# Altium schematic symbol library FPGA_Xilinx_Virtex6.SchLib: 28 symbols (part 4 of 15)
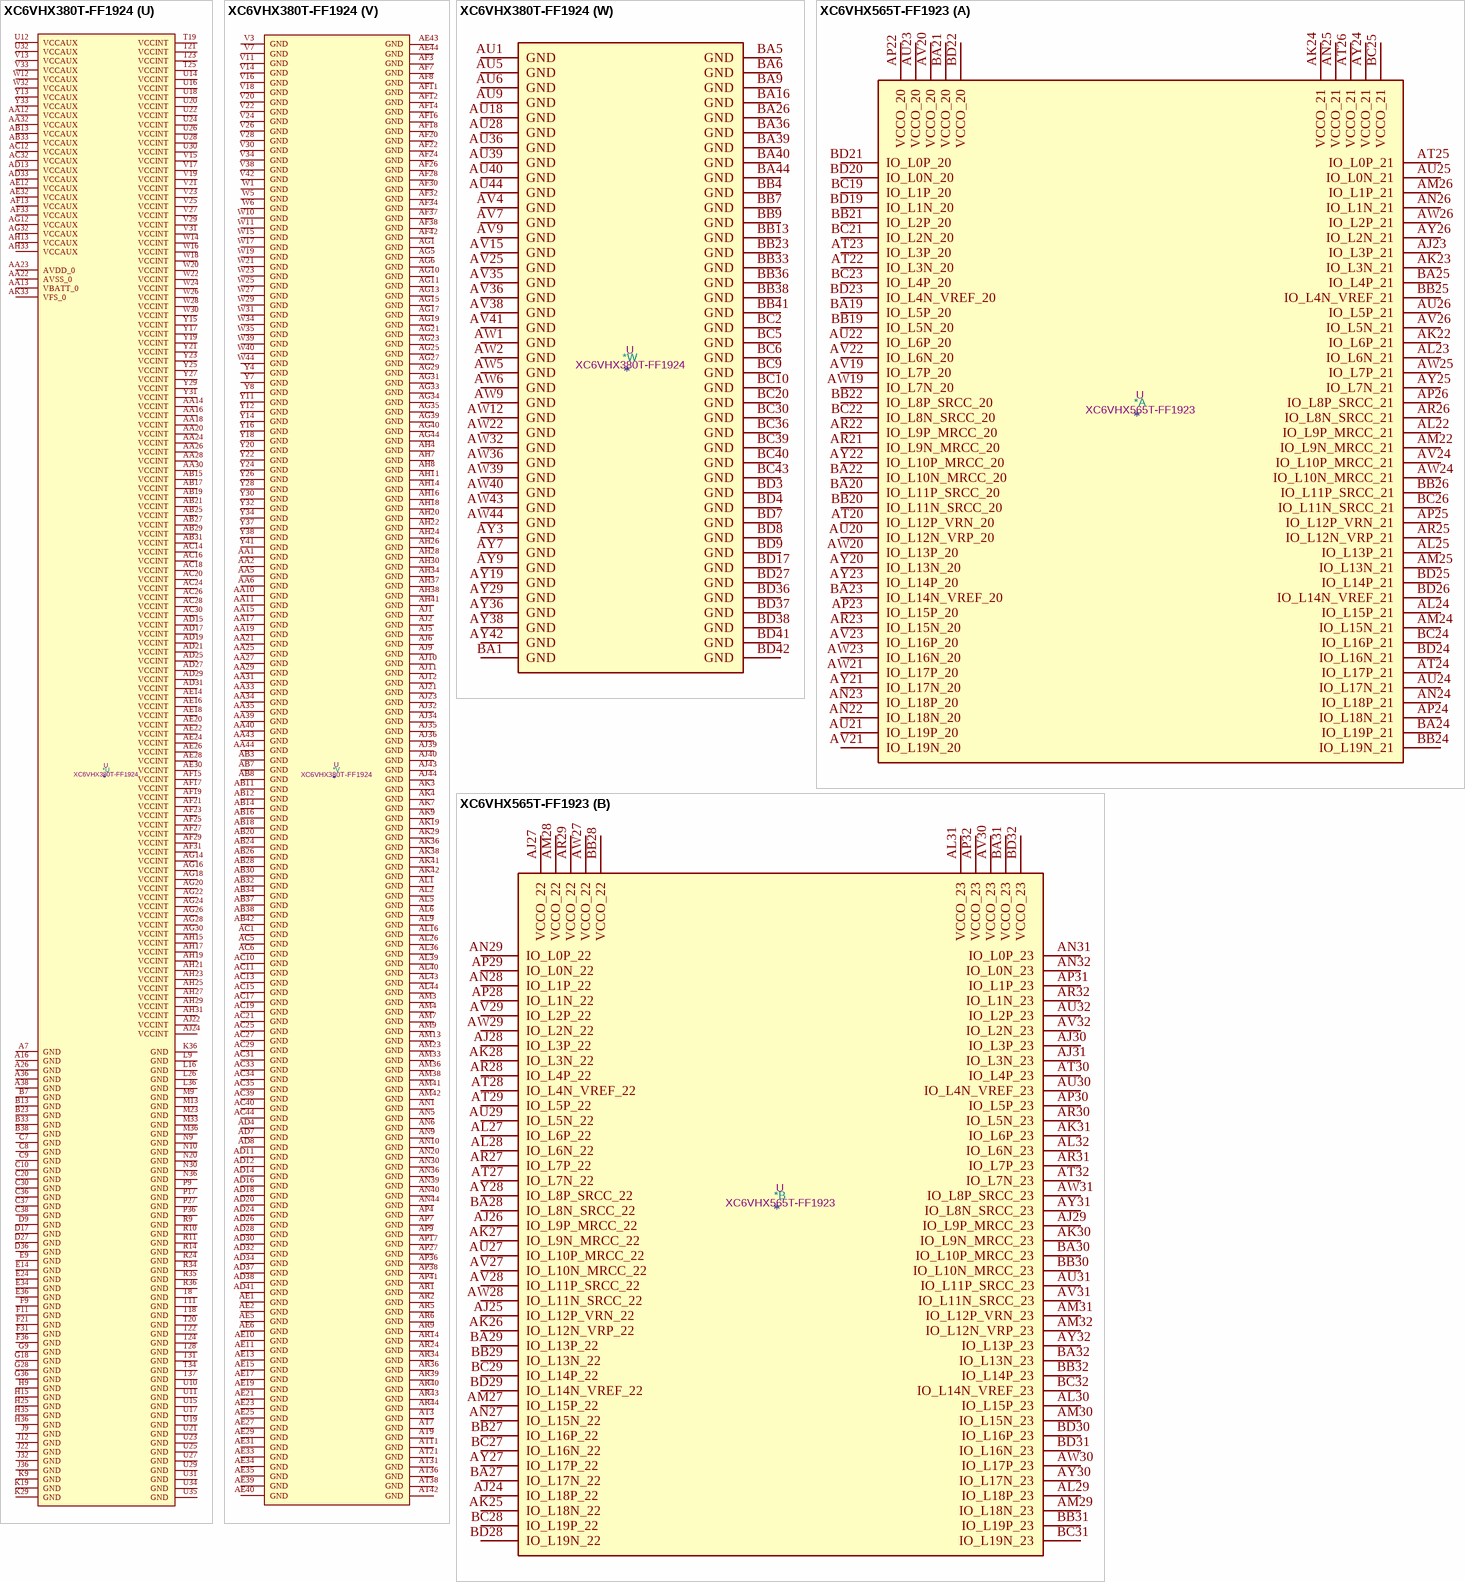
[diagram p104: symbols XC6VHX380T-FF1924 to XC6VHX565T-FF1923]

## XC6VHX380T-FF1924
designator *  value XC6VHX380T-FF1924  Reference: U
Virtex 6 HXT 380 XC6VHX380T-FF1924; ki_keywords: FPGA; Description_: Virtex 6 HXT 380 XC6VHX380T-FF1924
part A pins: AJ25 IO_L12P_VRN_22, AJ26 IO_L9P_MRCC_22, AJ27 VCCO_22, AJ28 IO_L3P_22, AK23 IO_L3P_21, AK24 VCCO_21, AK25 IO_L18P_22, AK26 IO_L12N_VRP_22, AK27 IO_L9N_MRCC_22, AK28 IO_L3N_22, AL23 IO_L3N_21, AL24 IO_L15P_21, AL25 IO_L18N_22, AL27 IO_L6P_22, AL28 IO_L6N_22, AM24 IO_L15N_21, AM25 IO_L15P_22, AM26 IO_L15N_22, AM27 IO_L0P_22, AM28 VCCO_22, AN23 IO_L6P_21, AN24 IO_L18P_21, AN25 VCCO_21, AN26 IO_L10P_MRCC_22, AN27 IO_L1P_22, AN28 IO_L0N_22, AP23 IO_L6N_21, AP24 IO_L18N_21, AP25 IO_L12P_VRN_21, AP26 IO_L10N_MRCC_22, AP28 IO_L1N_22, AR23 IO_L9P_MRCC_21, AR25 IO_L12N_VRP_21, AR26 IO_L5P_22, AR27 IO_L5N_22, AR28 IO_L2P_22, AT23 IO_L9N_MRCC_21, AT24 IO_L14P_21, AT25 IO_L1P_21, AT26 VCCO_22, AT27 IO_L7P_22, AT28 IO_L2N_22, AU23 VCCO_21, AU24 IO_L14N_VREF_21, AU25 IO_L1N_21, AU26 IO_L0P_21, AU27 IO_L7N_22, AV23 IO_L10P_MRCC_21, AV24 IO_L13P_21, AV26 IO_L0N_21, AV27 IO_L11P_SRCC_22, AV28 IO_L4P_22, AW23 IO_L10N_MRCC_21, AW24 IO_L13N_21, AW25 IO_L2P_21, AW26 IO_L5P_21, AW27 VCCO_22, AW28 IO_L11N_SRCC_22, AW29 IO_L4N_VREF_22, AY23 IO_L11P_SRCC_21, AY24 VCCO_21, AY25 IO_L2N_21, AY26 IO_L5N_21, AY27 IO_L13P_22, AY28 IO_L8P_SRCC_22, BA23 IO_L11N_SRCC_21, BA24 IO_L8P_SRCC_21, BA25 IO_L19P_21, BA27 IO_L16P_22, BA28 IO_L13N_22, BA29 IO_L8N_SRCC_22, BB24 IO_L8N_SRCC_21, BB25 IO_L19N_21, BB26 IO_L7P_21, BB27 IO_L16N_22, BB28 VCCO_22, BB29 IO_L17P_22, BC23 IO_L16P_21, BC24 IO_L17P_21, BC25 VCCO_21, BC26 IO_L7N_21, BC27 IO_L14P_22, BC28 IO_L19P_22, BC29 IO_L17N_22, BD23 IO_L16N_21, BD24 IO_L17N_21, BD25 IO_L4P_21, BD26 IO_L4N_VREF_21, BD28 IO_L14N_VREF_22, BD29 IO_L19N_22
part B pins: AJ29 IO_L9P_MRCC_23, AJ30 IO_L9N_MRCC_23, AJ31 IO_L3P_23, AK30 IO_L6P_23, AK31 IO_L3N_23, AK34 VCCO_24, AK35 IO_L3P_D13_24, AL29 IO_L12P_VRN_23, AL30 IO_L6N_23, AL31 VCCO_23, AL32 IO_L18P_24, AL33 IO_L9P_MRCC_24, AL34 IO_L6P_D7_24, AL35 IO_L3N_D12_24, AM29 IO_L18P_23, AM30 IO_L12N_VRP_23, AM31 IO_L15P_23, AM32 IO_L18N_24, AM34 IO_L9N_MRCC_24, AM35 IO_L6N_D6_24, AN29 IO_L18N_23, AN31 IO_L15N_23, AN32 IO_L15P_FWE_B_24, AN33 IO_L15N_RS1_24, AN34 IO_L12P_D3_24, AN35 VCCO_24, AP29 IO_L1P_23, AP30 IO_L1N_23, AP31 IO_L0P_23, AP32 VCCO_24, AP33 IO_L0P_GC_24, AP34 IO_L0N_GC_24, AP35 IO_L12N_D2_FS2_24, AR29 VCCO_23, AR30 IO_L4P_23, AR31 IO_L0N_23, AR32 IO_L8P_SRCC_24, AR33 IO_L1P_GC_24, AR35 IO_L2P_D15_24, AT29 IO_L7P_23, AT30 IO_L4N_VREF_23, AT32 IO_L8N_SRCC_24, AT33 IO_L1N_GC_24, AT34 IO_L5P_D9_24, AT35 IO_L2N_D14_24, AU29 IO_L14P_23, AU30 IO_L7N_23, AU31 IO_L2P_23, AU32 IO_L5P_23, AU33 VCCO_24, AU34 IO_L4P_D11_24, AU35 IO_L5N_D8_24, AV29 IO_L14N_VREF_23, AV30 VCCO_23, AV31 IO_L2N_23, AV32 IO_L5N_23, AV33 IO_L7P_D5_24, AV34 IO_L4N_VREF_D10_24, AW30 IO_L16P_23, AW31 IO_L11P_SRCC_23, AW33 IO_L14P_FCS_B_24, AW34 IO_L7N_D4_24, AW35 IO_L10P_MRCC_24, AY30 IO_L16N_23, AY31 IO_L11N_SRCC_23, AY32 IO_L8P_SRCC_23, AY33 IO_L14N_VREF_FOE_B_MOSI_24, AY34 VCCO_24, AY35 IO_L10N_MRCC_24, BA30 IO_L17P_23, BA31 VCCO_23, BA32 IO_L8N_SRCC_23, BA33 IO_L13P_D1_FS1_24, BA34 IO_L13N_D0_FS0_24, BA35 IO_L11P_SRCC_24, BB30 IO_L17N_23, BB31 IO_L10P_MRCC_23, BB32 IO_L13P_23, BB34 IO_L16P_RS0_24, BB35 IO_L11N_SRCC_24, BC31 IO_L10N_MRCC_23, BC32 IO_L13N_23, BC33 IO_L19P_24, BC34 IO_L16N_CSO_B_24, BC35 VCCO_24, BD30 IO_L19P_23, BD31 IO_L19N_23, BD32 VCCO_23, BD33 IO_L19N_24, BD34 IO_L17P_VRN_24, BD35 IO_L17N_VRP_24
part C pins: A30 IO_L1N_26, A31 VCCO_26, A32 IO_L0N_26, A33 IO_L5N_26, A34 IO_L0P_25, A35 IO_L0N_25, A37 IO_L2N_SM8N_25, B30 IO_L1P_26, B31 IO_L0P_26, B32 IO_L5P_26, B34 IO_L7N_SM12N_25, B35 IO_L1P_25, B36 IO_L1N_25, B37 IO_L2P_SM8P_25, C31 IO_L7N_26, C32 IO_L2P_26, C33 IO_L2N_26, C34 IO_L7P_SM12P_25, C35 VCCO_25, D30 IO_L4N_VREF_26, D31 IO_L7P_26, D32 VCCO_26, D33 IO_L8P_SRCC_25, D34 IO_L8N_SRCC_25, D35 IO_L5N_SM10N_25, E30 IO_L4P_26, E31 IO_L11P_SRCC_26, E32 IO_L11N_SRCC_26, E33 IO_L13N_SM14N_25, E35 IO_L5P_SM10P_25, F30 IO_L13N_26, F32 IO_L8N_SRCC_26, F33 IO_L13P_SM14P_25, F34 IO_L14N_VREF_25, F35 IO_L11N_SRCC_25, G30 IO_L13P_26, G31 IO_L8P_SRCC_26, G32 IO_L17N_26, G33 VCCO_25, G34 IO_L14P_25, G35 IO_L11P_SRCC_25, H30 VCCO_26, H31 IO_L17P_26, H32 IO_L10N_MRCC_26, H33 IO_L19N_GC_25, H34 IO_L17N_25, J30 IO_L19N_26, J31 IO_L10P_MRCC_26, J33 IO_L19P_GC_25, J34 IO_L17P_25, J35 IO_L6N_SM11N_25, K30 IO_L19P_26, K31 IO_L14N_VREF_26, K32 IO_L16N_26, K33 IO_L3N_SM9N_25, K34 VCCO_25, K35 IO_L6P_SM11P_25, L30 IO_L14P_26, L31 VCCO_26, L32 IO_L16P_26, L33 IO_L3P_SM9P_25, L34 IO_L16N_VRP_25, L35 IO_L10N_MRCC_25, M29 IO_L6N_26, M30 IO_L3P_26, M31 IO_L3N_26, M32 IO_L12N_VRP_26, M34 IO_L16P_VRN_25, M35 IO_L10P_MRCC_25, N29 IO_L6P_26, N31 IO_L12P_VRN_26, N32 IO_L12N_SM13N_25, N33 IO_L9P_MRCC_25, N34 IO_L9N_MRCC_25, N35 VCCO_25, P29 IO_L9N_MRCC_26, P30 IO_L15N_26, P31 IO_L12P_SM13P_25, P32 VCCO_25, P33 IO_L15N_SM15N_25, P34 IO_L4P_25, P35 IO_L4N_VREF_25, R28 IO_L9P_MRCC_26, R29 VCCO_26, R30 IO_L15P_26, R31 IO_L18P_GC_25, R32 IO_L18N_GC_25, R33 IO_L15P_SM15P_25, T29 IO_L18P_26, T30 IO_L18N_26
part D pins: A23 IO_L8P_SRCC_28, A24 IO_L8N_SRCC_28, A25 IO_L7N_28, A27 IO_L0N_27, A28 IO_L1P_27, A29 IO_L1N_27, B24 IO_L5N_28, B25 IO_L7P_28, B26 IO_L2N_28, B27 IO_L0P_27, B28 VCCO_27, B29 IO_L5N_27, C23 IO_L5P_28, C24 IO_L4N_VREF_28, C25 VCCO_28, C26 IO_L2P_28, C27 IO_L2P_27, C28 IO_L2N_27, C29 IO_L5P_27, D23 IO_L4P_28, D24 IO_L1N_28, D25 IO_L10N_MRCC_28, D26 IO_L11N_SRCC_28, D28 IO_L8P_SRCC_27, D29 IO_L8N_SRCC_27, E23 IO_L1P_28, E25 IO_L10P_MRCC_28, E26 IO_L11P_SRCC_28, E27 IO_L4N_VREF_27, E28 IO_L7N_27, E29 VCCO_27, F23 IO_L0P_28, F24 IO_L0N_28, F25 IO_L17N_28, F26 VCCO_28, F27 IO_L4P_27, F28 IO_L7P_27, F29 IO_L10N_MRCC_27, G23 VCCO_28, G24 IO_L17P_28, G25 IO_L14P_28, G26 IO_L14N_VREF_28, G27 IO_L11N_SRCC_27, G29 IO_L10P_MRCC_27, H23 IO_L13N_28, H24 IO_L16N_28, H26 IO_L19N_28, H27 IO_L11P_SRCC_27, H28 IO_L17P_27, H29 IO_L17N_27, J23 IO_L13P_28, J24 IO_L16P_28, J25 IO_L12N_VRP_28, J26 IO_L19P_28, J27 VCCO_27, J28 IO_L19P_27, J29 IO_L19N_27, K23 IO_L3N_28, K24 VCCO_28, K25 IO_L12P_VRN_28, K26 IO_L13P_27, K27 IO_L13N_27, K28 IO_L14N_VREF_27, L23 IO_L3P_28, L24 IO_L6P_28, L25 IO_L6N_28, L27 IO_L14P_27, L28 IO_L16P_27, L29 IO_L16N_27, M24 IO_L9P_MRCC_28, M25 IO_L9N_MRCC_28, M26 IO_L3N_27, M27 IO_L6N_27, M28 VCCO_27, N23 IO_L18P_28, N24 IO_L18N_28, N25 VCCO_28, N26 IO_L3P_27, N27 IO_L6P_27, N28 IO_L15N_27, P23 IO_L15P_28, P24 IO_L15N_28, P25 IO_L9N_MRCC_27, P26 IO_L12N_VRP_27, P28 IO_L15P_27, R25 IO_L9P_MRCC_27, R26 IO_L12P_VRN_27, R27 IO_L18N_27, T26 VCCO_27, T27 IO_L18P_27
part E pins: AJ17 VCCO_32, AJ18 IO_L6P_32, AJ19 IO_L15N_32, AJ20 IO_L15P_32, AK17 IO_L3P_32, AK18 IO_L6N_32, AK20 IO_L18P_32, AK21 IO_L3N_31, AK22 IO_L3P_31, AL17 IO_L3N_32, AL18 IO_L9N_MRCC_32, AL19 IO_L9P_MRCC_32, AL20 IO_L18N_32, AL21 VCCO_31, AL22 IO_L15P_31, AM17 IO_L0P_32, AM18 VCCO_32, AM19 IO_L12N_VRP_32, AM20 IO_L12P_VRN_32, AM21 IO_L15N_31, AM22 IO_L18P_31, AN17 IO_L0N_32, AN18 IO_L1P_32, AN19 IO_L10P_MRCC_32, AN21 IO_L6P_31, AN22 IO_L18N_31, AP18 IO_L1N_32, AP19 IO_L10N_MRCC_32, AP20 IO_L6N_31, AP21 IO_L9P_MRCC_31, AP22 VCCO_31, AR17 IO_L2N_32, AR18 IO_L2P_32, AR19 VCCO_32, AR20 IO_L9N_MRCC_31, AR21 IO_L12N_VRP_31, AR22 IO_L12P_VRN_31, AT17 IO_L5P_32, AT18 IO_L7N_32, AT19 IO_L7P_32, AT20 IO_L1P_31, AT22 IO_L13P_31, AU17 IO_L5N_32, AU19 IO_L0P_31, AU20 IO_L1N_31, AU21 IO_L14P_31, AU22 IO_L13N_31, AV17 IO_L4P_32, AV18 IO_L11P_SRCC_32, AV19 IO_L0N_31, AV20 VCCO_31, AV21 IO_L14N_VREF_31, AV22 IO_L10P_MRCC_31, AW16 IO_L4N_VREF_32, AW17 VCCO_32, AW18 IO_L11N_SRCC_32, AW19 IO_L2N_31, AW20 IO_L2P_31, AW21 IO_L10N_MRCC_31, AY16 IO_L13N_32, AY17 IO_L13P_32, AY18 IO_L16P_32, AY20 IO_L4P_31, AY21 IO_L19N_31, AY22 IO_L19P_31, BA17 IO_L17P_32, BA18 IO_L16N_32, BA19 IO_L4N_VREF_31, BA20 IO_L5P_31, BA21 VCCO_31, BA22 IO_L11P_SRCC_31, BB16 IO_L17N_32, BB17 IO_L8P_SRCC_32, BB18 VCCO_32, BB19 IO_L7P_31, BB20 IO_L5N_31, BB21 IO_L11N_SRCC_31, BB22 IO_L16P_31, BC16 IO_L8N_SRCC_32, BC17 IO_L19P_32, BC18 IO_L14P_32, BC19 IO_L7N_31, BC21 IO_L17P_31, BC22 IO_L16N_31, BD16 IO_L19N_32, BD18 IO_L14N_VREF_32, BD19 IO_L8N_SRCC_31, BD20 IO_L8P_SRCC_31, BD21 IO_L17N_31, BD22 VCCO_31
part F pins: AJ14 IO_L3N_33, AJ15 IO_L3P_33, AJ16 IO_L6P_33, AK10 IO_L3P_A13_D29_34, AK13 IO_L15P_A23_34, AK14 VCCO_33, AK15 IO_L9P_MRCC_33, AK16 IO_L6N_33, AL10 IO_L3N_A12_D28_34, AL11 VCCO_34, AL12 IO_L9P_MRCC_34, AL13 IO_L15N_A22_34, AL14 IO_L9N_MRCC_33, AL15 IO_L12P_VRN_33, AM10 IO_L6N_A06_D22_34, AM11 IO_L6P_A07_D23_34, AM12 IO_L9N_MRCC_34, AM14 IO_L15P_33, AM15 IO_L12N_VRP_33, AM16 IO_L18P_33, AN11 IO_L12P_A03_D19_34, AN12 IO_L18N_A16_34, AN13 IO_L18P_A17_34, AN14 IO_L15N_33, AN15 VCCO_33, AN16 IO_L18N_33, AP10 IO_L12N_A02_D18_34, AP11 IO_L0P_GC_34, AP12 VCCO_34, AP13 IO_L8P_SRCC_34, AP14 IO_L1N_33, AP15 IO_L1P_33, AP16 IO_L4P_33, AR10 IO_L2P_A15_D31_34, AR11 IO_L0N_GC_34, AR12 IO_L1P_GC_34, AR13 IO_L8N_SRCC_34, AR15 IO_L0P_33, AR16 IO_L4N_VREF_33, AT10 IO_L2N_A14_D30_34, AT12 IO_L1N_GC_34, AT13 IO_L13P_A01_D17_34, AT14 IO_L0N_33, AT15 IO_L7P_33, AT16 VCCO_33, AU10 IO_L4N_VREF_A10_D26_34, AU11 IO_L4P_A11_D27_34, AU12 IO_L13N_A00_D16_34, AU13 VCCO_33, AU14 IO_L5P_33, AU15 IO_L7N_33, AU16 IO_L14P_33, AV10 VCCO_34, AV11 IO_L5N_A08_D24_34, AV12 IO_L5P_A09_D25_34, AV13 IO_L5N_33, AV14 IO_L2P_33, AV16 IO_L14N_VREF_33, AW10 IO_L10P_MRCC_34, AW11 IO_L7P_A05_D21_34, AW13 IO_L11P_SRCC_33, AW14 IO_L2N_33, AW15 IO_L17P_33, AY10 IO_L10N_MRCC_34, AY11 IO_L7N_A04_D20_34, AY12 IO_L14P_A25_34, AY13 IO_L11N_SRCC_33, AY14 VCCO_33, AY15 IO_L17N_33, BA10 IO_L11P_SRCC_34, BA11 VCCO_34, BA12 IO_L14N_VREF_A24_34, BA13 IO_L8N_SRCC_33, BA14 IO_L8P_SRCC_33, BA15 IO_L16P_33, BB10 IO_L11N_SRCC_34, BB11 IO_L16P_A21_34, BB12 IO_L19P_VRN_34, BB14 IO_L13P_33, BB15 IO_L16N_33, BC11 IO_L16N_A20_34, BC12 IO_L19N_VRP_34, BC13 IO_L13N_33, BC14 IO_L10P_MRCC_33, BC15 VCCO_33, BD10 IO_L17N_A18_34, BD11 IO_L17P_A19_34, BD12 VCCO_34, BD13 IO_L10N_MRCC_33, BD14 IO_L19N_33, BD15 IO_L19P_33
part G pins: A8 IO_L4N_VREF_35, A9 IO_L7N_SM4N_35, A10 IO_L2N_SM0N_35, A11 VCCO_35, A12 IO_L1N_35, A13 IO_L1P_35, A14 IO_L5N_36, A15 IO_L1N_36, A17 IO_L0N_36, B8 VCCO_35, B9 IO_L4P_35, B10 IO_L7P_SM4P_35, B11 IO_L2P_SM0P_35, B12 IO_L5N_SM2N_35, B14 IO_L5P_36, B15 IO_L1P_36, B16 IO_L2N_36, B17 IO_L0P_36, C11 IO_L0N_35, C12 IO_L0P_35, C13 IO_L5P_SM2P_35, C14 IO_L4N_VREF_36, C15 VCCO_36, C16 IO_L2P_36, D10 IO_L14N_VREF_35, D11 IO_L8N_SRCC_35, D12 VCCO_35, D13 IO_L17N_36, D14 IO_L4P_36, D15 IO_L11N_SRCC_36, D16 IO_L7N_36, E10 IO_L13N_SM6N_35, E11 IO_L14P_35, E12 IO_L8P_SRCC_35, E13 IO_L17P_36, E15 IO_L11P_SRCC_36, E16 IO_L7P_36, F10 IO_L13P_SM6P_35, F12 IO_L10N_MRCC_35, F13 IO_L6N_36, F14 IO_L6P_36, F15 IO_L3N_36, F16 VCCO_36, G10 IO_L6N_SM3N_35, G11 IO_L17N_35, G12 IO_L10P_MRCC_35, G13 VCCO_36, G14 IO_L13N_36, G15 IO_L3P_36, H10 VCCO_35, H11 IO_L6P_SM3P_35, H12 IO_L17P_35, H13 IO_L8N_SRCC_36, H14 IO_L13P_36, J10 IO_L11N_SRCC_35, J11 IO_L9N_MRCC_35, J13 IO_L14N_VREF_36, J14 IO_L8P_SRCC_36, J15 IO_L19N_36, K10 IO_L11P_SRCC_35, K11 IO_L9P_MRCC_35, K12 IO_L16N_VRP_35, K13 IO_L14P_36, K14 VCCO_36, K15 IO_L19P_36, L10 IO_L15N_SM7N_35, L11 VCCO_35, L12 IO_L16P_VRN_35, L13 IO_L18N_36, L14 IO_L18P_36, L15 IO_L16N_36, M10 IO_L18N_GC_35, M11 IO_L15P_SM7P_35, M12 IO_L19N_GC_35, M14 IO_L12N_VRP_36, M15 IO_L16P_36, N11 IO_L18P_GC_35, N12 IO_L19P_GC_35, N13 IO_L10N_MRCC_36, N14 IO_L12P_VRN_36, N15 VCCO_36, P10 IO_L12N_SM5N_35, P11 IO_L12P_SM5P_35, P12 VCCO_35, P13 IO_L10P_MRCC_36, P14 IO_L9N_MRCC_36, P15 IO_L9P_MRCC_36, R12 IO_L3N_SM1N_35, R13 IO_L3P_SM1P_35, R15 IO_L15N_36, T15 IO_L15P_36
part H pins: A18 IO_L4N_VREF_38, A19 IO_L5N_38, A20 IO_L8N_SRCC_38, A21 VCCO_38, A22 IO_L7N_38, B18 VCCO_38, B19 IO_L4P_38, B20 IO_L5P_38, B21 IO_L8P_SRCC_38, B22 IO_L7P_38, C17 IO_L5N_37, C18 IO_L5P_37, C19 IO_L1N_37, C21 IO_L1N_38, C22 IO_L1P_38, D18 IO_L2N_37, D19 IO_L1P_37, D20 IO_L11N_SRCC_38, D21 IO_L2N_38, D22 VCCO_38, E17 IO_L4N_VREF_37, E18 IO_L2P_37, E19 VCCO_37, E20 IO_L16N_38, E21 IO_L11P_SRCC_38, E22 IO_L2P_38, F17 IO_L4P_37, F18 IO_L7N_37, F19 IO_L7P_37, F20 IO_L16P_38, F22 IO_L13N_38, G16 IO_L13N_37, G17 IO_L8N_SRCC_37, G19 IO_L0N_37, G20 IO_L17N_38, G21 IO_L10N_MRCC_38, G22 IO_L13P_38, H16 IO_L14N_VREF_37, H17 IO_L13P_37, H18 IO_L8P_SRCC_37, H19 IO_L0P_37, H20 VCCO_38, H21 IO_L17P_38, H22 IO_L10P_MRCC_38, J16 IO_L14P_37, J17 VCCO_37, J18 IO_L11N_SRCC_37, J19 IO_L11P_SRCC_37, J20 IO_L19N_38, J21 IO_L0N_38, K16 IO_L17N_37, K17 IO_L17P_37, K18 IO_L10N_MRCC_37, K20 IO_L14N_VREF_38, K21 IO_L19P_38, K22 IO_L0P_38, L17 IO_L18N_37, L18 IO_L10P_MRCC_37, L19 IO_L3N_37, L20 IO_L14P_38, L21 VCCO_38, L22 IO_L3N_38, M16 IO_L16N_37, M17 IO_L18P_37, M18 VCCO_37, M19 IO_L3P_37, M20 IO_L6N_38, M21 IO_L6P_38, M22 IO_L3P_38, N16 IO_L16P_37, N17 IO_L12N_VRP_37, N18 IO_L12P_VRN_37, N19 IO_L6N_37, N21 IO_L9N_MRCC_38, N22 IO_L9P_MRCC_38, P16 IO_L19N_37, P18 IO_L9N_MRCC_37, P19 IO_L6P_37, P20 IO_L12N_VRP_38, P21 IO_L18N_38, P22 VCCO_38, R16 IO_L19P_37, R17 IO_L15N_37, R18 IO_L9P_MRCC_37, R19 VCCO_37, R20 IO_L12P_VRN_38, R21 IO_L18P_38, R22 IO_L15N_38, R23 IO_L15P_38, T16 VCCO_37, T17 IO_L15P_37
part I pins: AP39 MGTRXN3_101, AP40 MGTRXP3_101, AP43 MGTTXN3_101, AP44 MGTTXP3_101, AR37 MGTREFCLK1P_101, AR38 MGTREFCLK1N_101, AR41 MGTTXN2_101, AR42 MGTTXP2_101, AT39 MGTRXN2_101, AT40 MGTRXP2_101, AT43 MGTTXN1_101, AT44 MGTTXP1_101, AU37 MGTREFCLK0P_101, AU38 MGTREFCLK0N_101, AU41 MGTTXN0_101, AU42 MGTTXP0_101, AV39 MGTRXN1_101, AV40 MGTRXP1_101, AV43 MGTTXN3_100, AV44 MGTTXP3_100, AW37 MGTREFCLK1P_100, AW38 MGTREFCLK1N_100, AW41 MGTTXN2_100, AW42 MGTTXP2_100, AY39 MGTRXN0_101, AY40 MGTRXP0_101, AY43 MGTTXN1_100, AY44 MGTTXP1_100, BA37 MGTREFCLK0P_100, BA38 MGTREFCLK0N_100, BA41 MGTRXN3_100, BA42 MGTRXP3_100, BB39 MGTRXN2_100, BB40 MGTRXP2_100, BB43 MGTTXN0_100, BB44 MGTTXP0_100, BC41 MGTRXN1_100, BC42 MGTRXP1_100, BD39 MGTRXN0_100, BD40 MGTRXP0_100
part J pins: AD35 MGTREFCLK1P_103, AD36 MGTREFCLK1N_103, AE37 MGTRXN3_103, AE38 MGTRXP3_103, AF35 MGTREFCLK0P_103, AF36 MGTREFCLK0N_103, AF39 MGTRXN2_103, AF40 MGTRXP2_103, AF43 MGTTXN3_103, AF44 MGTTXP3_103, AG37 MGTRXN1_103, AG38 MGTRXP1_103, AG41 MGTTXN2_103, AG42 MGTTXP2_103, AH35 MGTREFCLK1P_102, AH36 MGTREFCLK1N_102, AH39 MGTRXN0_103, AH40 MGTRXP0_103, AH43 MGTTXN1_103, AH44 MGTTXP1_103, AJ37 MGTRXN2_102, AJ38 MGTRXP2_102, AJ41 MGTTXN0_103, AJ42 MGTTXP0_103, AK39 MGTRXN3_102, AK40 MGTRXP3_102, AK43 MGTTXN3_102, AK44 MGTTXP3_102, AL37 MGTRXN0_102, AL38 MGTRXP0_102, AL41 MGTTXN2_102, AL42 MGTTXP2_102, AM39 MGTRXN1_102, AM40 MGTRXP1_102, AM43 MGTTXN1_102, AM44 MGTTXP1_102, AN37 MGTREFCLK0P_102, AN38 MGTREFCLK0N_102, AN41 MGTTXN0_102, AN42 MGTTXP0_102
part K pins: AA37 MGTRXN3_104, AA38 MGTRXP3_104, AA41 MGTTXN0_105, AA42 MGTTXP0_105, AB35 MGTREFCLK0P_104, AB36 MGTREFCLK0N_104, AB39 MGTRXN2_104, AB40 MGTRXP2_104, AB43 MGTTXN3_104, AB44 MGTTXP3_104, AC37 MGTRXN1_104, AC38 MGTRXP1_104, AC41 MGTTXN2_104, AC42 MGTTXP2_104, AD39 MGTRXN0_104, AD40 MGTRXP0_104, AD43 MGTTXN1_104, AD44 MGTTXP1_104, AE41 MGTTXN0_104, AE42 MGTTXP0_104, T35 MGTREFCLK1P_105, T36 MGTREFCLK1N_105, U37 MGTRXN3_105, U38 MGTRXP3_105, V35 MGTREFCLK0P_105, V36 MGTREFCLK0N_105, V39 MGTRXN2_105, V40 MGTRXP2_105, V43 MGTTXN3_105, V44 MGTTXP3_105, W37 MGTRXN1_105, W38 MGTRXP1_105, W41 MGTTXN2_105, W42 MGTTXP2_105, Y35 MGTREFCLK1P_104, Y36 MGTREFCLK1N_104, Y39 MGTRXN0_105, Y40 MGTRXP0_105, Y43 MGTTXN1_105, Y44 MGTTXP1_105
part L pins: E37 MGTRBIAS_107, G41 MGTTXP2_107, G42 MGTTXN2_107, H39 MGTRXP2_107, H40 MGTRXN2_107, H43 MGTTXP3_107, H44 MGTTXN3_107, J37 MGTRXP3_107, J38 MGTRXN3_107, J41 MGTREFCLKP_107, J42 MGTREFCLKN_107, K39 MGTRXP0_107, K40 MGTRXN0_107, K43 MGTTXP1_107, K44 MGTTXN1_107, L37 MGTRXP1_107, L38 MGTRXN1_107, L41 MGTTXP0_107, L42 MGTTXN0_107, M39 MGTRXP3_106, M40 MGTRXN3_106, M43 MGTTXP2_106, M44 MGTTXN2_106, N37 MGTRXP2_106, N38 MGTRXN2_106, N41 MGTTXP3_106, N42 MGTTXN3_106, P43 MGTTXP1_106, P44 MGTTXN1_106, R38 MGTRBIAS_106, R41 MGTREFCLKP_106, R42 MGTREFCLKN_106, T39 MGTRXP1_106, T40 MGTRXN1_106, T43 MGTTXP0_106, T44 MGTTXN0_106, U41 MGTRXP0_106, U42 MGTRXN0_106
part M pins: A41 MGTTXP2_108, A42 MGTTXN2_108, AV1 MGTTXP3_110, AV2 MGTTXN3_110, AW3 MGTTXP2_110, AW4 MGTTXN2_110, AW7 MGTREFCLK1N_110, AW8 MGTREFCLK1P_110, AY1 MGTTXP1_110, AY2 MGTTXN1_110, B39 MGTRXP2_108, B40 MGTRXN2_108, BA3 MGTRXP3_110, BA4 MGTRXN3_110, BA7 MGTREFCLK0N_110, BA8 MGTREFCLK0P_110, BB1 MGTTXP0_110, BB2 MGTTXN0_110, BB5 MGTRXP2_110, BB6 MGTRXN2_110, BC3 MGTRXP1_110, BC4 MGTRXN1_110, BD5 MGTRXP0_110, BD6 MGTRXN0_110, C41 MGTTXP3_108, C42 MGTTXN3_108, D37 MGTRBIAS_108, D39 MGTRXP3_108, D40 MGTRXN3_108, D43 MGTTXP1_108, D44 MGTTXN1_108, E41 MGTREFCLKP_108, E42 MGTREFCLKN_108, F39 MGTRXP1_108, F40 MGTRXN1_108, F43 MGTTXP0_108, F44 MGTTXN0_108, G37 MGTRXP0_108, G38 MGTRXN0_108
part N pins: AH9 MGTREFCLK1N_112, AH10 MGTREFCLK1P_112, AJ7 MGTRXP2_112, AJ8 MGTRXN2_112, AK1 MGTTXP3_112, AK2 MGTTXN3_112, AK5 MGTRXP3_112, AK6 MGTRXN3_112, AL3 MGTTXP2_112, AL4 MGTTXN2_112, AL7 MGTRXP0_112, AL8 MGTRXN0_112, AM1 MGTTXP1_112, AM2 MGTTXN1_112, AM5 MGTRXP1_112, AM6 MGTRXN1_112, AN3 MGTTXP0_112, AN4 MGTTXN0_112, AN7 MGTREFCLK0N_112, AN8 MGTREFCLK0P_112, AP1 MGTTXP3_111, AP2 MGTTXN3_111, AP5 MGTRXP3_111, AP6 MGTRXN3_111, AR3 MGTTXP2_111, AR4 MGTTXN2_111, AR7 MGTREFCLK1N_111, AR8 MGTREFCLK1P_111, AT1 MGTTXP1_111, AT2 MGTTXN1_111, AT5 MGTRXP2_111, AT6 MGTRXN2_111, AU3 MGTTXP0_111, AU4 MGTTXN0_111, AU7 MGTREFCLK0N_111, AU8 MGTREFCLK0P_111, AV5 MGTRXP1_111, AV6 MGTRXN1_111, AY5 MGTRXP0_111, AY6 MGTRXN0_111
part O pins: AA7 MGTRXP3_114, AA8 MGTRXN3_114, AB1 MGTTXP3_114, AB2 MGTTXN3_114, AB5 MGTRXP2_114, AB6 MGTRXN2_114, AB9 MGTREFCLK0N_114, AB10 MGTREFCLK0P_114, AC3 MGTTXP2_114, AC4 MGTTXN2_114, AC7 MGTRXP1_114, AC8 MGTRXN1_114, AD1 MGTTXP1_114, AD2 MGTTXN1_114, AD5 MGTRXP0_114, AD6 MGTRXN0_114, AD9 MGTREFCLK1N_113, AD10 MGTREFCLK1P_113, AE3 MGTTXP0_114, AE4 MGTTXN0_114, AE7 MGTRXP3_113, AE8 MGTRXN3_113, AF1 MGTTXP3_113, AF2 MGTTXN3_113, AF5 MGTRXP2_113, AF6 MGTRXN2_113, AF9 MGTREFCLK0N_113, AF10 MGTREFCLK0P_113, AG3 MGTTXP2_113, AG4 MGTTXN2_113, AG7 MGTRXP1_113, AG8 MGTRXN1_113, AH1 MGTTXP1_113, AH2 MGTTXN1_113, AH5 MGTRXP0_113, AH6 MGTRXN0_113, AJ3 MGTTXP0_113, AJ4 MGTTXN0_113, Y9 MGTREFCLK1N_114, Y10 MGTREFCLK1P_114
part P pins: AA3 MGTTXP0_115, AA4 MGTTXN0_115, M1 MGTTXN2_116, M2 MGTTXP2_116, M5 MGTRXN3_116, M6 MGTRXP3_116, N3 MGTTXN3_116, N4 MGTTXP3_116, N7 MGTRXN2_116, N8 MGTRXP2_116, P1 MGTTXN1_116, P2 MGTTXP1_116, R3 MGTREFCLKN_116, R4 MGTREFCLKP_116, R7 MGTRBIAS_116, T1 MGTTXN0_116, T2 MGTTXP0_116, T5 MGTRXN1_116, T6 MGTRXP1_116, T9 MGTREFCLK1N_115, T10 MGTREFCLK1P_115, U3 MGTRXN0_116, U4 MGTRXP0_116, U7 MGTRXP3_115, U8 MGTRXN3_115, V1 MGTTXP3_115, V2 MGTTXN3_115, V5 MGTRXP2_115, V6 MGTRXN2_115, V9 MGTREFCLK0N_115, V10 MGTREFCLK0P_115, W3 MGTTXP2_115, W4 MGTTXN2_115, W7 MGTRXP1_115, W8 MGTRXN1_115, Y1 MGTTXP1_115, Y2 MGTTXN1_115, Y5 MGTRXP0_115, Y6 MGTRXN0_115
part Q pins: A3 MGTTXN2_118, A4 MGTTXP2_118, B5 MGTRXN2_118, B6 MGTRXP2_118, C3 MGTTXN3_118, C4 MGTTXP3_118, D1 MGTTXN1_118, D2 MGTTXP1_118, D5 MGTRXN3_118, D6 MGTRXP3_118, D8 MGTRBIAS_118, E3 MGTREFCLKN_118, E4 MGTREFCLKP_118, E8 MGTRBIAS_117, F1 MGTTXN0_118, F2 MGTTXP0_118, F5 MGTRXN1_118, F6 MGTRXP1_118, G3 MGTTXN2_117, G4 MGTTXP2_117, G7 MGTRXN0_118, G8 MGTRXP0_118, H1 MGTTXN3_117, H2 MGTTXP3_117, H5 MGTRXN2_117, H6 MGTRXP2_117, J3 MGTREFCLKN_117, J4 MGTREFCLKP_117, J7 MGTRXN3_117, J8 MGTRXP3_117, K1 MGTTXN1_117, K2 MGTTXP1_117, K5 MGTRXN0_117, K6 MGTRXP0_117, L3 MGTTXN0_117, L4 MGTTXP0_117, L7 MGTRXN1_117, L8 MGTRXP1_117
part R pins: AA9 MGTAVCC_RN, AA36 MGTAVCC_LN, AB4 MGTAVTT_RN, AB41 MGTAVTT_LN, AC2 MGTAVTT_RN, AC9 MGTAVCC_RN, AC36 MGTAVCC_LN, AC43 MGTAVTT_LN, AD3 MGTAVTT_RN, AD42 MGTAVTT_LN, AE9 MGTAVCC_RN, AE36 MGTAVCC_LN, AF4 MGTAVTT_RN, AF41 MGTAVTT_LN, AG2 MGTAVTT_RN, AG9 MGTAVCC_RN, AG36 MGTAVCC_LN, AG43 MGTAVTT_LN, AH3 MGTAVTT_RN, AH42 MGTAVTT_LN, AK8 MGTAVCC_RS, AK37 MGTAVCC_LS, AM8 MGTAVCC_RS, AM37 MGTAVCC_LS, AN2 MGTAVTT_RS, AN43 MGTAVTT_LS, AP3 MGTAVTT_RS, AP8 MGTAVCC_RS, AP37 MGTAVCC_LS, AP42 MGTAVTT_LS, AT4 MGTAVTT_RS, AT8 MGTAVCC_RS, AT37 MGTAVCC_LS, AT41 MGTAVTT_LS, AU2 MGTAVTT_RS, AU43 MGTAVTT_LS, AV3 MGTAVTT_RS, AV8 MGTAVCC_RS, AV37 MGTAVCC_LS, AV42 MGTAVTT_LS, AY4 MGTAVTT_RS, AY8 MGTAVCC_RS, AY37 MGTAVCC_LS, AY41 MGTAVTT_LS, BA2 MGTAVTT_RS, BA43 MGTAVTT_LS, BB3 MGTAVTT_RS, BB8 MGTAVCC_RS, BB37 MGTAVCC_LS, BB42 MGTAVTT_LS, BC7 MGTRREF_115, BC8 MGTAVTTRCAL_115, BC37 MGTAVTTRCAL_105, BC38 MGTRREF_105, U9 MGTAVCC_RN, U36 MGTAVCC_LN, V8 MGTAVCC_RN, V37 MGTAVCC_LN, W2 MGTAVTT_RN, W9 MGTAVCC_RN, W36 MGTAVCC_LN, W43 MGTAVTT_LN, Y3 MGTAVTT_RN, Y42 MGTAVTT_LN
part S pins: A5 MGTHAGND_R, A6 MGTHAVCCRX_R, A39 MGTHAVCCRX_L, A40 MGTHAGND_L, B2 MGTHAGND_R, B3 MGTHAGND_R, B4 MGTHAVCC_R, B41 MGTHAVCC_L, B42 MGTHAGND_L, B43 MGTHAGND_L, C1 MGTHAGND_R, C2 MGTHAGND_R, C5 MGTHAGND_R, C6 MGTHAVCCRX_R, C39 MGTHAVCCRX_L, C40 MGTHAGND_L, C43 MGTHAGND_L, C44 MGTHAGND_L, D3 MGTHAGND_R, D4 MGTHAVCC_R, D7 MGTHAGND_R, D38 MGTHAGND_L, D41 MGTHAVCC_L, D42 MGTHAGND_L, E1 MGTHAGND_R, E2 MGTHAVTT_R, E5 MGTHAGND_R, E6 MGTHAVCC_R, E7 MGTHAGND_R, E38 MGTHAGND_L, E39 MGTHAVCC_L, E40 MGTHAGND_L, E43 MGTHAVTT_L, E44 MGTHAGND_L, F3 MGTHAGND_R, F4 MGTHAVCC_R, F7 MGTHAGND_R, F8 MGTHAVCCRX_R, F37 MGTHAVCCRX_L, F38 MGTHAGND_L, F41 MGTHAVCC_L, F42 MGTHAGND_L, G1 MGTHAGND_R, G2 MGTHAGND_R, G5 MGTHAGND_R, G6 MGTHAVCCRX_R, G39 MGTHAVCCRX_L, G40 MGTHAGND_L, G43 MGTHAGND_L, G44 MGTHAGND_L, H3 MGTHAGND_R, H4 MGTHAVCC_R, H7 MGTHAGND_R, H8 MGTHAVCCPLL_R, H37 MGTHAVCCPLL_L, H38 MGTHAGND_L, H41 MGTHAVCC_L, H42 MGTHAGND_L, J1 MGTHAGND_R, J2 MGTHAVTT_R, J5 MGTHAGND_R, J6 MGTHAVCCRX_R, J39 MGTHAVCCRX_L, J40 MGTHAGND_L, J43 MGTHAVTT_L, J44 MGTHAGND_L, K3 MGTHAGND_R, K4 MGTHAVCC_R, K7 MGTHAGND_R, K8 MGTHAVCCPLL_R, K37 MGTHAVCCPLL_L, K38 MGTHAGND_L, K41 MGTHAVCC_L, K42 MGTHAGND_L, L1 MGTHAGND_R, L2 MGTHAVTT_R, L5 MGTHAGND_R, L6 MGTHAVCCRX_R, L39 MGTHAVCCRX_L, L40 MGTHAGND_L, L43 MGTHAVTT_L, L44 MGTHAGND_L, M3 MGTHAGND_R, M4 MGTHAVCC_R, M7 MGTHAGND_R, M8 MGTHAVCCPLL_R, M37 MGTHAVCCPLL_L, M38 MGTHAGND_L, M41 MGTHAVCC_L, M42 MGTHAGND_L, N1 MGTHAGND_R, N2 MGTHAGND_R, N5 MGTHAGND_R, N6 MGTHAVCC_R, N39 MGTHAVCC_L, N40 MGTHAGND_L, N43 MGTHAGND_L, N44 MGTHAGND_L, P3 MGTHAGND_R, P4 MGTHAVCC_R, P7 MGTHAGND_R, P8 MGTHAVCCRX_R, P37 MGTHAVCCRX_L, P38 MGTHAGND_L, P41 MGTHAVCC_L, P42 MGTHAGND_L, R1 MGTHAGND_R, R2 MGTHAVTT_R, R5 MGTHAGND_R, R6 MGTHAVCCRX_R, R39 MGTHAVCCRX_L, R40 MGTHAGND_L, R43 MGTHAVTT_L, R44 MGTHAGND_L, T3 MGTHAGND_R, T4 MGTHAVCC_R, T7 MGTHAGND_R, T38 MGTHAGND_L, T41 MGTHAVCC_L, T42 MGTHAGND_L, U1 MGTHAGND_R, U2 MGTHAGND_R, U5 MGTHAGND_R, U6 MGTHAGND_R, U39 MGTHAGND_L, U40 MGTHAGND_L, U43 MGTHAGND_L, U44 MGTHAGND_L, V4 MGTHAGND_R, V41 MGTHAGND_L
part T pins: AB22 VREFN_0, AB23 VP_0, AC22 VN_0, AC23 VREFP_0, AD22 DXN_0, AD23 DXP_0, AH12 TDO_0, AH32 CSI_B_0, AJ13 TCK_0, AJ33 CCLK_0, AK11 TDI_0, AK12 TMS_0, AK32 DOUT_BUSY_0, T12 VCCO_0, T13 DONE_0, T14 INIT_B_0, T32 M1_0, T33 M2_0, U13 HSWAPEN_0, U33 PROGRAM_B_0, V12 VCCO_0, V32 M0_0, W13 DIN_0, W33 RDWR_B_0
part U pins: A7 GND, A16 GND, A26 GND, A36 GND, A38 GND, AA12 VCCAUX, AA13 VBATT_0, AA14 VCCINT, AA16 VCCINT, AA18 VCCINT, AA20 VCCINT, AA22 AVSS_0, AA23 AVDD_0, AA24 VCCINT, AA26 VCCINT, AA28 VCCINT, AA30 VCCINT, AA32 VCCAUX, AB13 VCCAUX, AB15 VCCINT, AB17 VCCINT, AB19 VCCINT, AB21 VCCINT, AB25 VCCINT, AB27 VCCINT, AB29 VCCINT, AB31 VCCINT, AB33 VCCAUX, AC12 VCCAUX, AC14 VCCINT, AC16 VCCINT, AC18 VCCINT, AC20 VCCINT, AC24 VCCINT, AC26 VCCINT, AC28 VCCINT, AC30 VCCINT, AC32 VCCAUX, AD13 VCCAUX, AD15 VCCINT, AD17 VCCINT, AD19 VCCINT, AD21 VCCINT, AD25 VCCINT, AD27 VCCINT, AD29 VCCINT, AD31 VCCINT, AD33 VCCAUX, AE12 VCCAUX, AE14 VCCINT, AE16 VCCINT, AE18 VCCINT, AE20 VCCINT, AE22 VCCINT, AE24 VCCINT, AE26 VCCINT, AE28 VCCINT, AE30 VCCINT, AE32 VCCAUX, AF13 VCCAUX, AF15 VCCINT, AF17 VCCINT, AF19 VCCINT, AF21 VCCINT, AF23 VCCINT, AF25 VCCINT, AF27 VCCINT, AF29 VCCINT, AF31 VCCINT, AF33 VCCAUX, AG12 VCCAUX, AG14 VCCINT, AG16 VCCINT, AG18 VCCINT, AG20 VCCINT, AG22 VCCINT, AG24 VCCINT, AG26 VCCINT, AG28 VCCINT, AG30 VCCINT, AG32 VCCAUX, AH13 VCCAUX, AH15 VCCINT, AH17 VCCINT, AH19 VCCINT, AH21 VCCINT, AH23 VCCINT, AH25 VCCINT, AH27 VCCINT, AH29 VCCINT, AH31 VCCINT, AH33 VCCAUX, AJ22 VCCINT, AJ24 VCCINT, AK33 VFS_0, B7 GND, B13 GND, B23 GND, B33 GND, B38 GND, C7 GND, C8 GND, C9 GND, C10 GND, C20 GND, C30 GND, C36 GND, C37 GND, C38 GND, D9 GND, D17 GND, D27 GND, D36 GND, E9 GND, E14 GND, E24 GND, E34 GND, E36 GND, F9 GND, F11 GND, F21 GND, F31 GND, F36 GND, G9 GND, G18 GND, G28 GND, G36 GND, H9 GND, H15 GND, H25 GND, H35 GND, H36 GND, J9 GND, J12 GND, J22 GND, J32 GND, J36 GND, K9 GND, K19 GND, K29 GND, K36 GND, L9 GND, L16 GND, L26 GND, L36 GND, M9 GND, M13 GND, M23 GND, M33 GND, M36 GND, N9 GND, N10 GND, N20 GND, N30 GND, N36 GND, P9 GND, P17 GND, P27 GND, P36 GND, R9 GND, R10 GND, R11 GND, R14 GND, R24 GND, R34 GND, R35 GND, R36 GND, T8 GND, T11 GND, T18 GND, T19 VCCINT, T20 GND, T21 VCCINT, T22 GND, T23 VCCINT, T24 GND, T25 VCCINT, T28 GND, T31 GND, T34 GND, T37 GND, U10 GND, U11 GND, U12 VCCAUX, U14 VCCINT, U15 GND, U16 VCCINT, U17 GND, U18 VCCINT, U19 GND, U20 VCCINT, U21 GND, U22 VCCINT, U23 GND, U24 VCCINT, U25 GND, U26 VCCINT, U27 GND, U28 VCCINT, U29 GND, U30 VCCINT, U31 GND, U32 VCCAUX, U34 GND, U35 GND, V13 VCCAUX, V15 VCCINT, V17 VCCINT, V19 VCCINT, V21 VCCINT, V23 VCCINT, V25 VCCINT, V27 VCCINT, V29 VCCINT, V31 VCCINT, V33 VCCAUX, W12 VCCAUX, W14 VCCINT, W16 VCCINT, W18 VCCINT, W20 VCCINT, W22 VCCINT, W24 VCCINT, W26 VCCINT, W28 VCCINT, W30 VCCINT, W32 VCCAUX, Y13 VCCAUX, Y15 VCCINT, Y17 VCCINT, Y19 VCCINT, Y21 VCCINT, Y23 VCCINT, Y25 VCCINT, Y27 VCCINT, Y29 VCCINT, Y31 VCCINT, Y33 VCCAUX
part V pins: AA1 GND, AA2 GND, AA5 GND, AA6 GND, AA10 GND, AA11 GND, AA15 GND, AA17 GND, AA19 GND, AA21 GND, AA25 GND, AA27 GND, AA29 GND, AA31 GND, AA33 GND, AA34 GND, AA35 GND, AA39 GND, AA40 GND, AA43 GND, AA44 GND, AB3 GND, AB7 GND, AB8 GND, AB11 GND, AB12 GND, AB14 GND, AB16 GND, AB18 GND, AB20 GND, AB24 GND, AB26 GND, AB28 GND, AB30 GND, AB32 GND, AB34 GND, AB37 GND, AB38 GND, AB42 GND, AC1 GND, AC5 GND, AC6 GND, AC10 GND, AC11 GND, AC13 GND, AC15 GND, AC17 GND, AC19 GND, AC21 GND, AC25 GND, AC27 GND, AC29 GND, AC31 GND, AC33 GND, AC34 GND, AC35 GND, AC39 GND, AC40 GND, AC44 GND, AD4 GND, AD7 GND, AD8 GND, AD11 GND, AD12 GND, AD14 GND, AD16 GND, AD18 GND, AD20 GND, AD24 GND, AD26 GND, AD28 GND, AD30 GND, AD32 GND, AD34 GND, AD37 GND, AD38 GND, AD41 GND, AE1 GND, AE2 GND, AE5 GND, AE6 GND, AE10 GND, AE11 GND, AE13 GND, AE15 GND, AE17 GND, AE19 GND, AE21 GND, AE23 GND, AE25 GND, AE27 GND, AE29 GND, AE31 GND, AE33 GND, AE34 GND, AE35 GND, AE39 GND, AE40 GND, AE43 GND, AE44 GND, AF3 GND, AF7 GND, AF8 GND, AF11 GND, AF12 GND, AF14 GND, AF16 GND, AF18 GND, AF20 GND, AF22 GND, AF24 GND, AF26 GND, AF28 GND, AF30 GND, AF32 GND, AF34 GND, AF37 GND, AF38 GND, AF42 GND, AG1 GND, AG5 GND, AG6 GND, AG10 GND, AG11 GND, AG13 GND, AG15 GND, AG17 GND, AG19 GND, AG21 GND, AG23 GND, AG25 GND, AG27 GND, AG29 GND, AG31 GND, AG33 GND, AG34 GND, AG35 GND, AG39 GND, AG40 GND, AG44 GND, AH4 GND, AH7 GND, AH8 GND, AH11 GND, AH14 GND, AH16 GND, AH18 GND, AH20 GND, AH22 GND, AH24 GND, AH26 GND, AH28 GND, AH30 GND, AH34 GND, AH37 GND, AH38 GND, AH41 GND, AJ1 GND, AJ2 GND, AJ5 GND, AJ6 GND, AJ9 GND, AJ10 GND, AJ11 GND, AJ12 GND, AJ21 GND, AJ23 GND, AJ32 GND, AJ34 GND, AJ35 GND, AJ36 GND, AJ39 GND, AJ40 GND, AJ43 GND, AJ44 GND, AK3 GND, AK4 GND, AK7 GND, AK9 GND, AK19 GND, AK29 GND, AK36 GND, AK38 GND, AK41 GND, AK42 GND, AL1 GND, AL2 GND, AL5 GND, AL6 GND, AL9 GND, AL16 GND, AL26 GND, AL36 GND, AL39 GND, AL40 GND, AL43 GND, AL44 GND, AM3 GND, AM4 GND, AM7 GND, AM9 GND, AM13 GND, AM23 GND, AM33 GND, AM36 GND, AM38 GND, AM41 GND, AM42 GND, AN1 GND, AN5 GND, AN6 GND, AN9 GND, AN10 GND, AN20 GND, AN30 GND, AN36 GND, AN39 GND, AN40 GND, AN44 GND, AP4 GND, AP7 GND, AP9 GND, AP17 GND, AP27 GND, AP36 GND, AP38 GND, AP41 GND, AR1 GND, AR2 GND, AR5 GND, AR6 GND, AR9 GND, AR14 GND, AR24 GND, AR34 GND, AR36 GND, AR39 GND, AR40 GND, AR43 GND, AR44 GND, AT3 GND, AT7 GND, AT9 GND, AT11 GND, AT21 GND, AT31 GND, AT36 GND, AT38 GND, AT42 GND, V3 GND, V7 GND, V11 GND, V14 GND, V16 GND, V18 GND, V20 GND, V22 GND, V24 GND, V26 GND, V28 GND, V30 GND, V34 GND, V38 GND, V42 GND, W1 GND, W5 GND, W6 GND, W10 GND, W11 GND, W15 GND, W17 GND, W19 GND, W21 GND, W23 GND, W25 GND, W27 GND, W29 GND, W31 GND, W34 GND, W35 GND, W39 GND, W40 GND, W44 GND, Y4 GND, Y7 GND, Y8 GND, Y11 GND, Y12 GND, Y14 GND, Y16 GND, Y18 GND, Y20 GND, Y22 GND, Y24 GND, Y26 GND, Y28 GND, Y30 GND, Y32 GND, Y34 GND, Y37 GND, Y38 GND, Y41 GND
part W pins: AU1 GND, AU5 GND, AU6 GND, AU9 GND, AU18 GND, AU28 GND, AU36 GND, AU39 GND, AU40 GND, AU44 GND, AV4 GND, AV7 GND, AV9 GND, AV15 GND, AV25 GND, AV35 GND, AV36 GND, AV38 GND, AV41 GND, AW1 GND, AW2 GND, AW5 GND, AW6 GND, AW9 GND, AW12 GND, AW22 GND, AW32 GND, AW36 GND, AW39 GND, AW40 GND, AW43 GND, AW44 GND, AY3 GND, AY7 GND, AY9 GND, AY19 GND, AY29 GND, AY36 GND, AY38 GND, AY42 GND, BA1 GND, BA5 GND, BA6 GND, BA9 GND, BA16 GND, BA26 GND, BA36 GND, BA39 GND, BA40 GND, BA44 GND, BB4 GND, BB7 GND, BB9 GND, BB13 GND, BB23 GND, BB33 GND, BB36 GND, BB38 GND, BB41 GND, BC2 GND, BC5 GND, BC6 GND, BC9 GND, BC10 GND, BC20 GND, BC30 GND, BC36 GND, BC39 GND, BC40 GND, BC43 GND, BD3 GND, BD4 GND, BD7 GND, BD8 GND, BD9 GND, BD17 GND, BD27 GND, BD36 GND, BD37 GND, BD38 GND, BD41 GND, BD42 GND

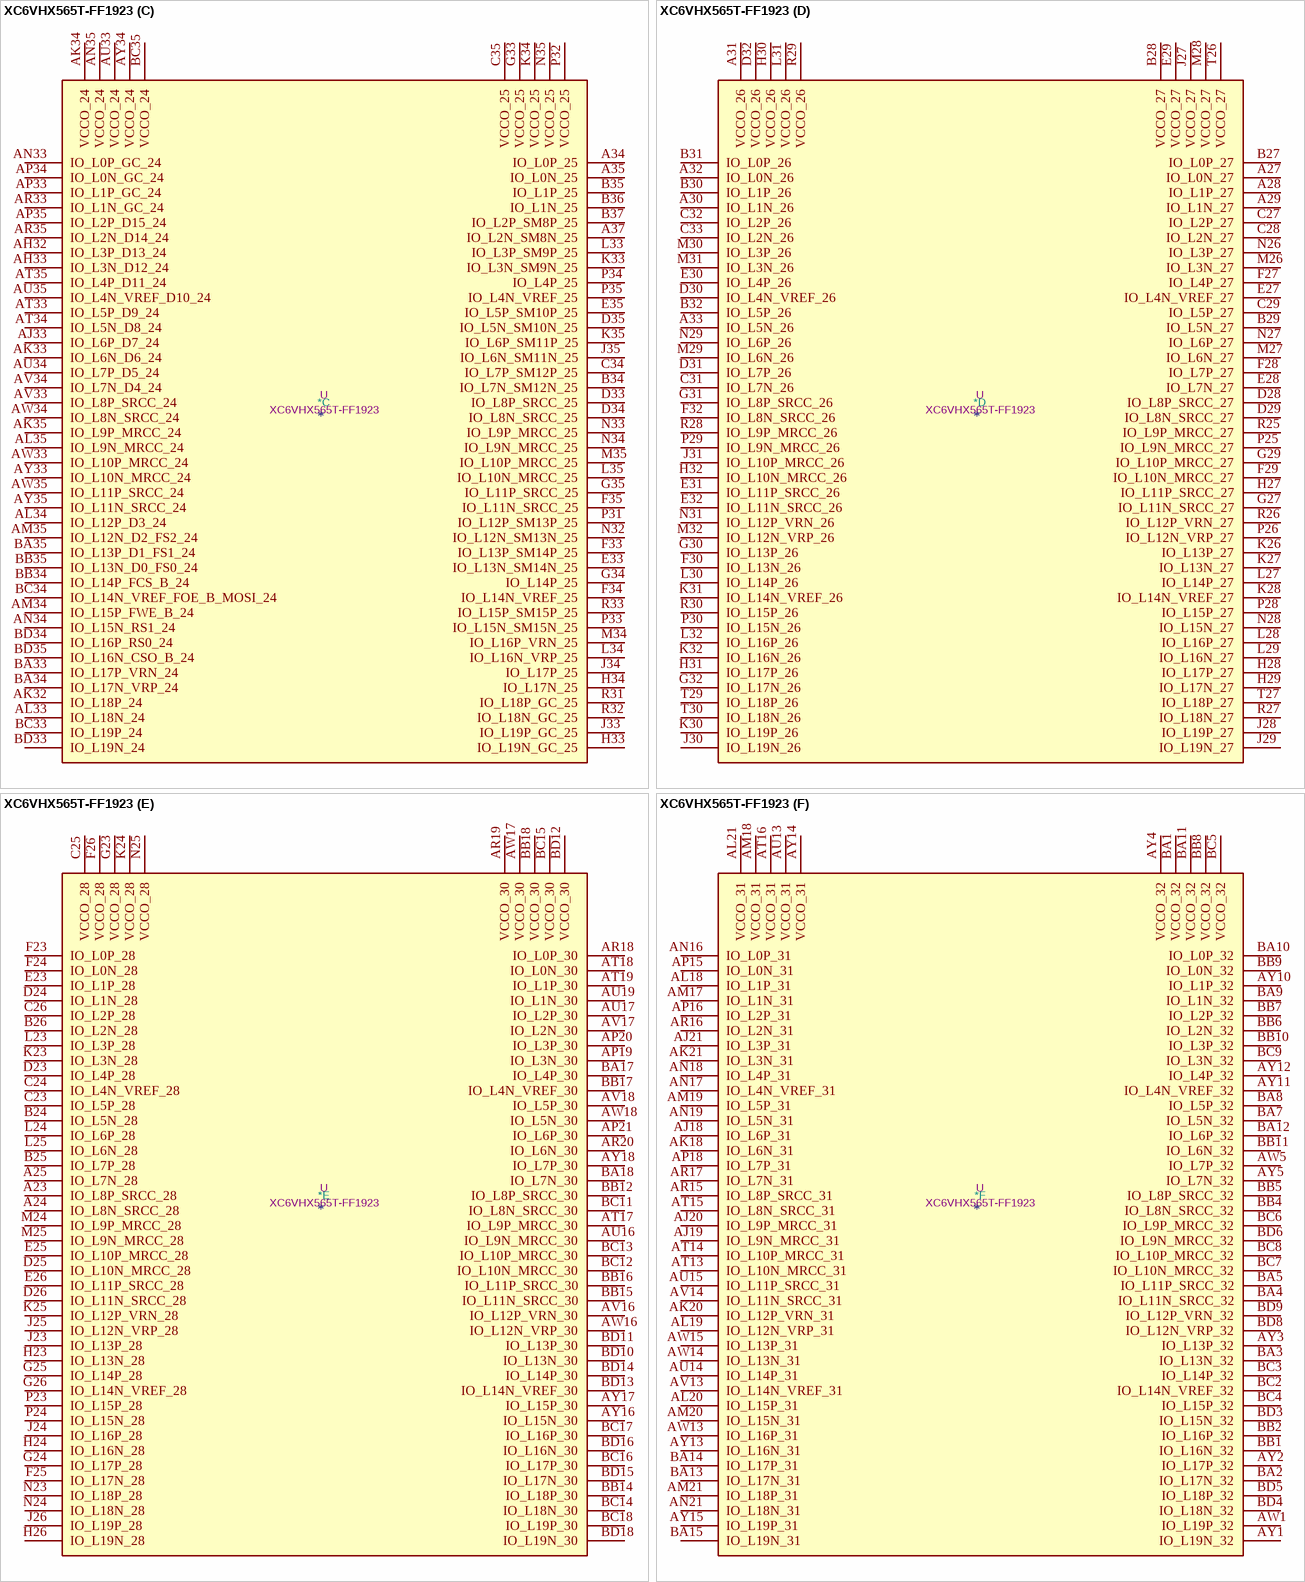
[diagram p25: symbol XC6VHX565T-FF1923]

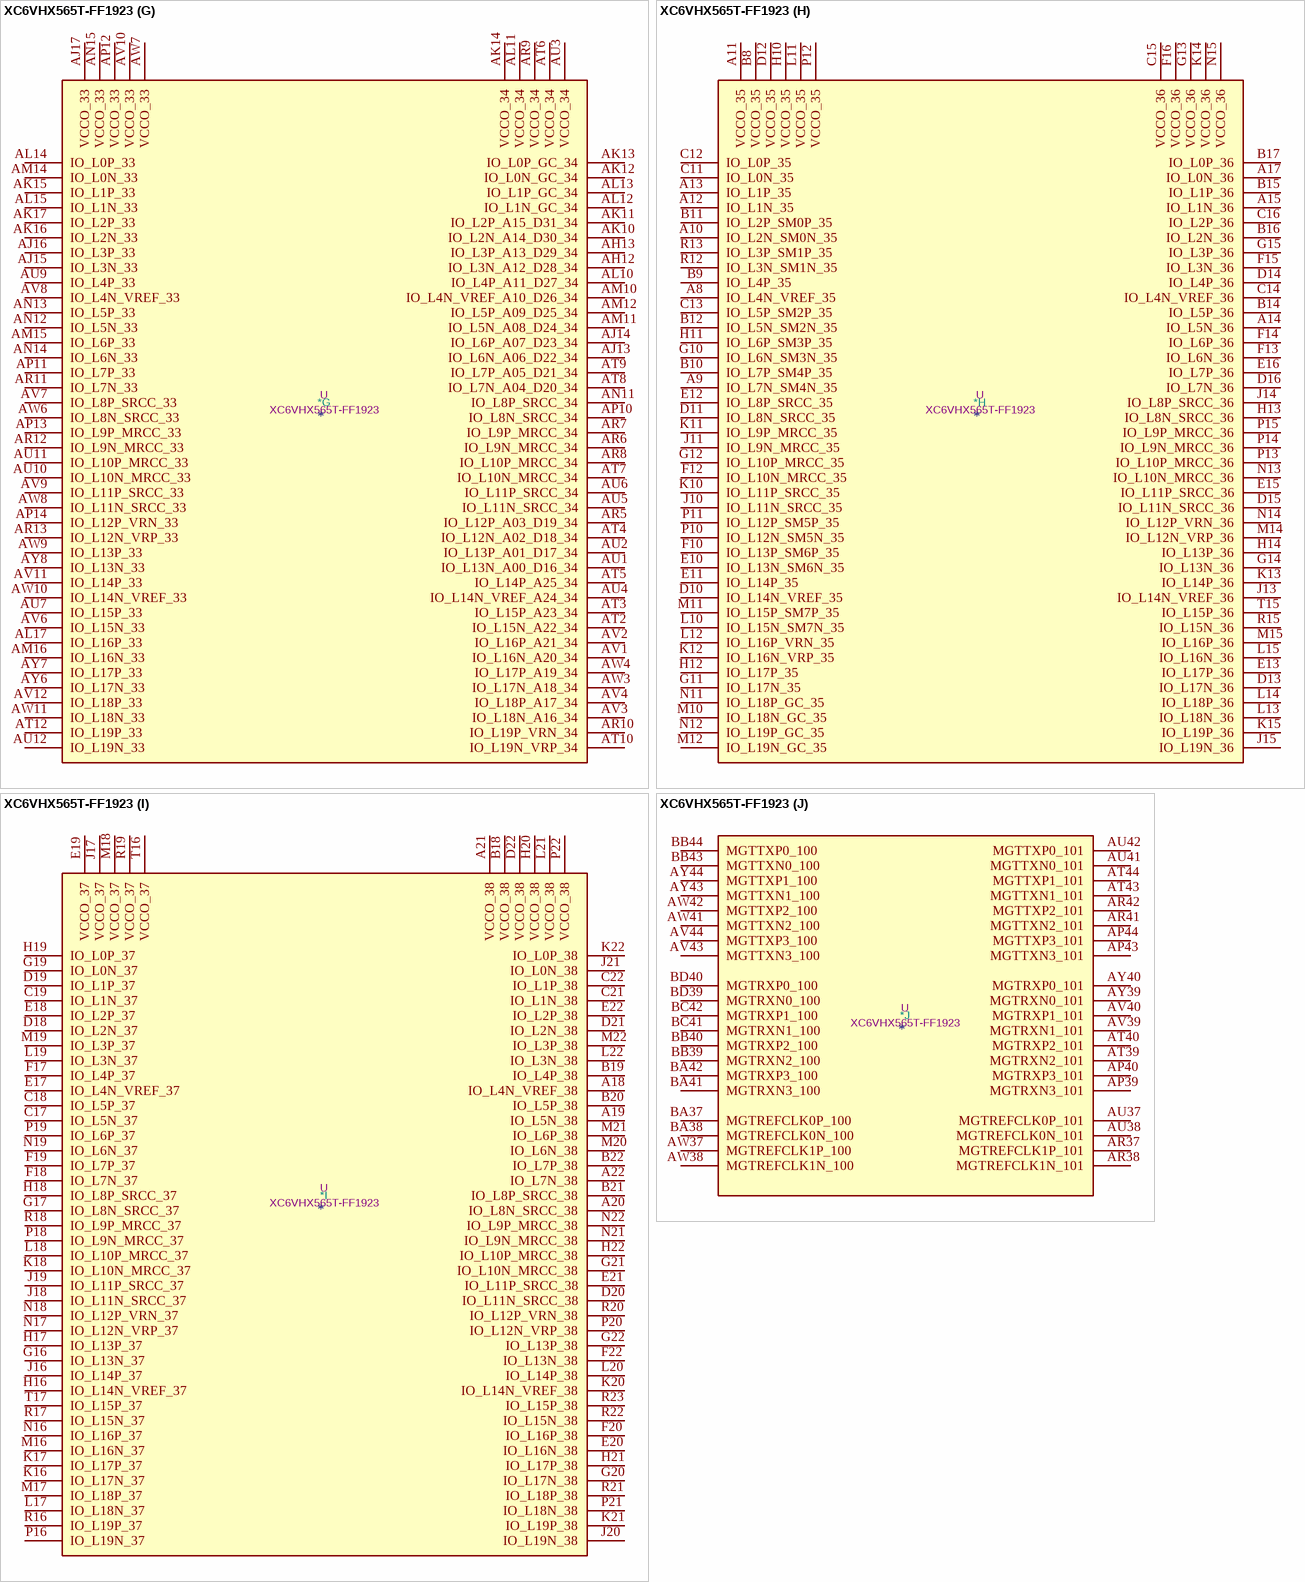
[diagram p26: symbol XC6VHX565T-FF1923]

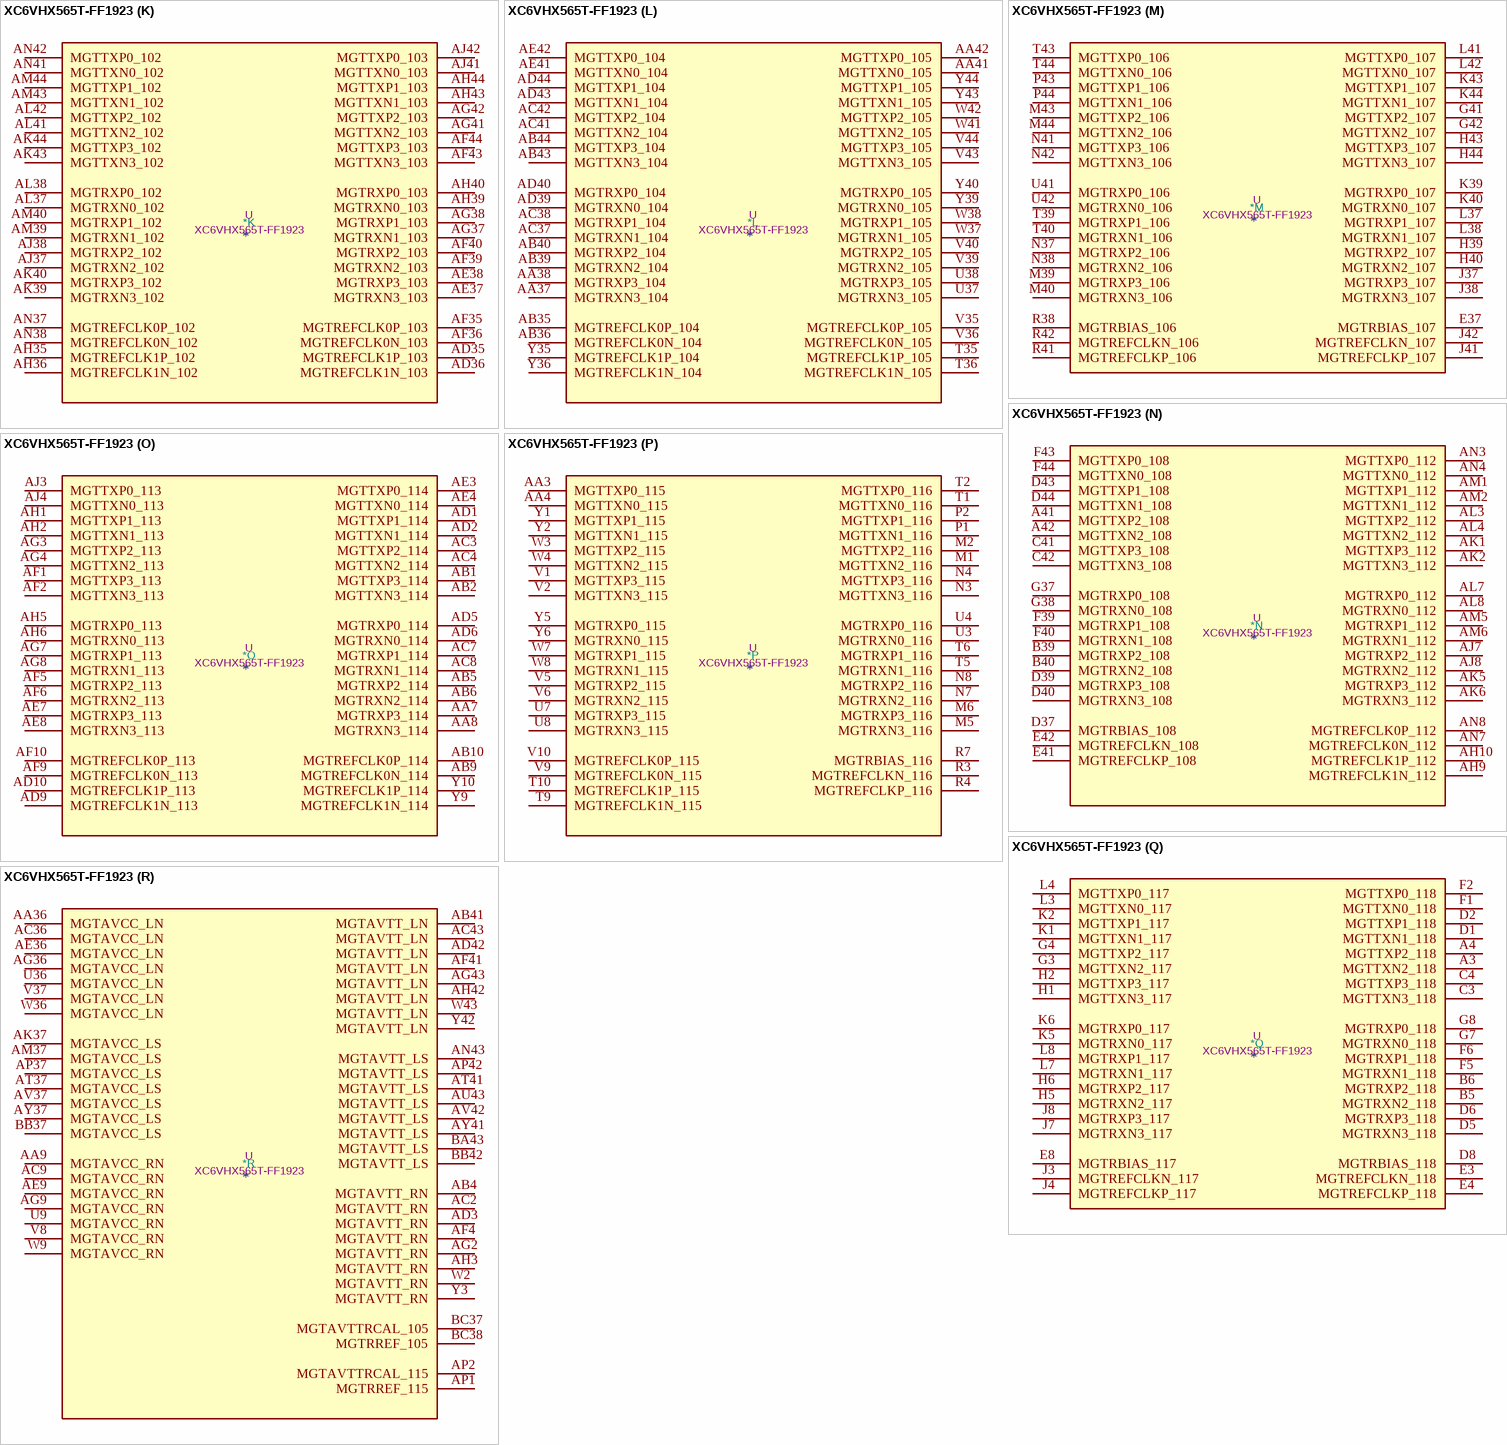
[diagram p27: symbol XC6VHX565T-FF1923]

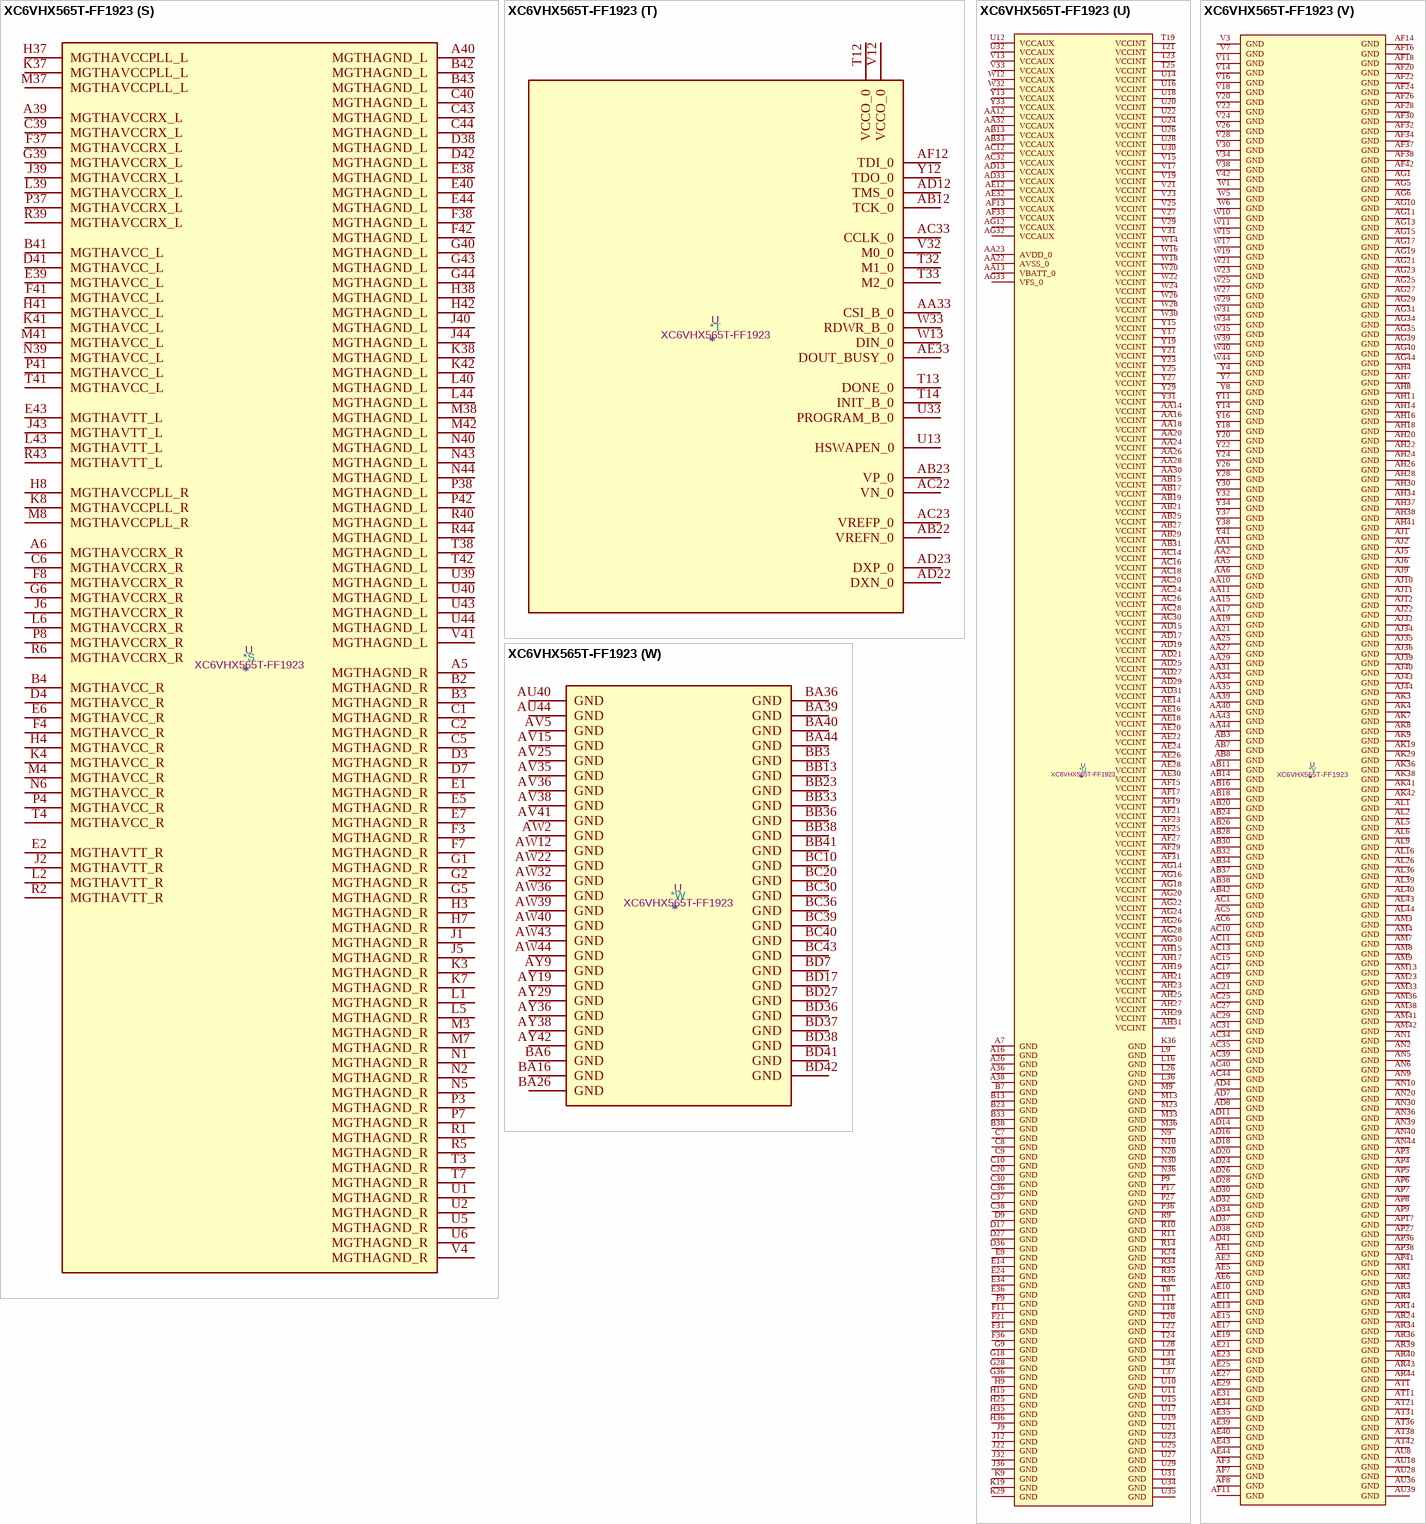
[diagram p28: symbol XC6VHX565T-FF1923]